# Altium footprint library STM32F103C8T6核心板.PcbLib: 14 footprints
Each footprint in its own frame and in the unit in brackets; x right, y up, seen from the top. Pads: shape width x height; smd on the part's side, far side on the other; paste and mask are expansions set on the pad; w line width, h text height; cw(c..) or ccw(c..) is an arc to the next point about the centre after c.
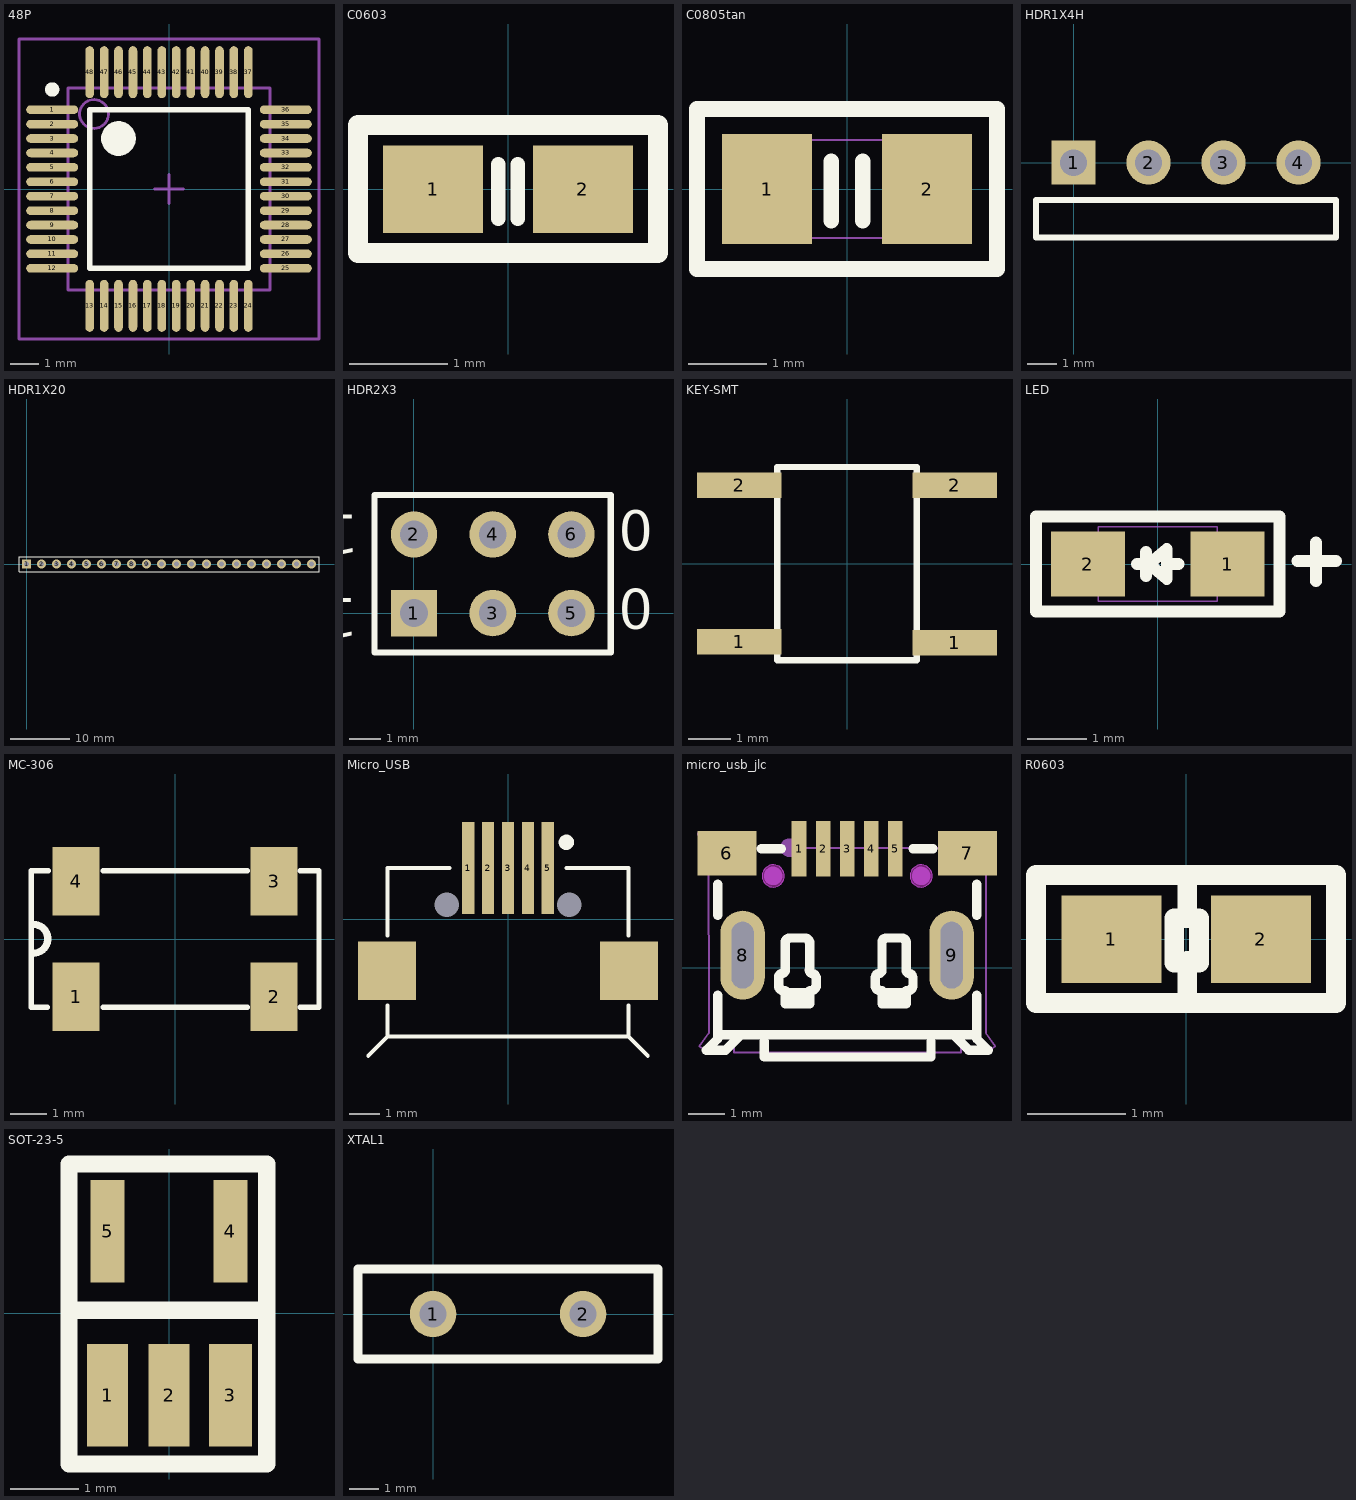
[diagram p0: the footprints below, top view; thin cyan lines are the x and y axes]

## 48P [mm]
height 4.32
pads (48):
  oval 1.8x0.3 smd: 1(-4.05,2.75) 2(-4.05,2.25) 3(-4.05,1.75) 4(-4.05,1.25) 5(-4.05,0.75) 6(-4.05,0.25) 7(-4.05,-0.25) 8(-4.05,-0.75) 9(-4.05,-1.25) 10(-4.05,-1.75) 11(-4.05,-2.25) 12(-4.05,-2.75) 25(4.05,-2.75) 26(4.05,-2.25) 27(4.05,-1.75) 28(4.05,-1.25) 29(4.05,-0.75) 30(4.05,-0.25) 31(4.05,0.25) 32(4.05,0.75) 33(4.05,1.25) 34(4.05,1.75) 35(4.05,2.25) 36(4.05,2.75)
  oval 0.3x1.8 smd: 13(-2.75,-4.05) 14(-2.25,-4.05) 15(-1.75,-4.05) 16(-1.25,-4.05) 17(-0.75,-4.05) 18(-0.25,-4.05) 19(0.25,-4.05) 20(0.75,-4.05) 21(1.25,-4.05) 22(1.75,-4.05) 23(2.25,-4.05) 24(2.75,-4.05) 37(2.75,4.05) 38(2.25,4.05) 39(1.75,4.05) 40(1.25,4.05) 41(0.75,4.05) 42(0.25,4.05) 43(-0.25,4.05) 44(-0.75,4.05) 45(-1.25,4.05) 46(-1.75,4.05) 47(-2.25,4.05) 48(-2.75,4.05)
Top Overlay:
  circle w0.6: c-1.75,1.75 r0.3
  circle w0.25: c-4.05,3.45 r0.125
  lines w0.2: -2.75,-2.75 2.75,-2.75 2.75,2.75 -2.75,2.75 -2.75,-2.75
Mechanical 13:
  circle w0.1: c-2.6,2.6 r0.5
  lines w0.1: -3.5,-3.5 3.5,-3.5 3.5,3.5 -3.5,3.5 -3.5,-3.5
Mechanical 15:
  lines w0.1: -0.5,0 0.5,0 ; 0,-0.5 0,0.5 ; -5.2,-5.2 5.2,-5.2 5.2,5.2 -5.2,5.2 -5.2,-5.2
3D body: height 1.6, standoff 0, extent -3.5,-3.5 3.5,3.5

## C0603 [mil]
height 170.08
pads (2):
  rect 40x35 smd: 1(-29.92,0) 2(29.92,0)
Top Overlay:
  lines w5.91: -3.94,-11.81 -3.94,9.84 ; 3.94,-11.81 3.94,9.84
  lines w7.87: -60,-25.59 -60,25.59 60,25.59 60,-25.59 -60,-25.59

## C0805tan [mil]
height 104.33
pads (2):
  rect 45x55 smd: 1(-40,0) 2(40,0)
Top Overlay:
  lines w7.87: -7.87,-15.75 -7.87,13.78 ; 7.87,-15.75 7.87,13.78 ; -75,-40 75,-40 75,40 -75,40 -75,-40
Mechanical 8:
  lines w1: -39.37,-24.61 39.37,-24.61 39.37,24.61 -39.37,24.61 -39.37,-24.61

## HDR1X4H [mm] "Connector; Header; 4 Position; Right Angle"
pads (4):
  rect 1.5x1.5 hole 0.9: 1(0,0)
  round 1.5 hole 0.9: 2(2.54,0) 3(5.08,0) 4(7.62,0)
Top Overlay:
  lines w0.2: -1.27,-2.54 8.89,-2.54 8.89,-1.27 -1.27,-1.27 -1.27,-2.54

## HDR1X20 [mm] "Connector; Header; 20 Position"
height 4.32
pads (20):
  rect 1.5x1.5 hole 0.9: 1(0,0)
  round 1.5 hole 0.9: 2(2.54,0) 3(5.08,0) 4(7.62,0) 5(10.16,0) 6(12.7,0) 7(15.24,0) 8(17.78,0) 9(20.32,0) 10(22.86,0) 11(25.4,0) 12(27.94,0) 13(30.48,0) 14(33.02,0) 15(35.56,0) 16(38.1,0) 17(40.64,0) 18(43.18,0) 19(45.72,0) 20(48.26,0)
Top Overlay:
  lines w0.2: -1.27,-1.27 49.53,-1.27 49.53,1.27 0.635,1.27 -1.27,1.27 -1.27,-1.27

## HDR2X3 [mm] "Connector; Header; 3x2 Position"
height 4.32
pads (6):
  rect 1.5x1.5 hole 0.9: 1(0,0)
  round 1.5 hole 0.9: 2(0,2.54) 3(2.54,0) 4(2.54,2.54) 5(5.08,0) 6(5.08,2.54)
Top Overlay:
  lines w0.2: 1.482,-1.27 6.35,-1.27 ; 6.35,-1.27 6.35,3.81 -1.27,3.81 -1.27,-1.27 6.35,-1.27
  text "0" at 6.604,2.032 h1.27
  text "0" at 6.604,-0.508 h1.27
  text "1" at -1.778,3.175 h1.27
  text "1" at -1.807,0.486 h1.27

## KEY-SMT [mm]
height 4.32
pads (4):
  rect 2x0.6 smd: 1(-2.55,-1.85) 1(2.55,-1.87) 2(-2.55,1.85) 2(2.55,1.85)
Top Overlay:
  lines w0.152: -1.651,-2.286 -1.651,2.286 1.651,2.286 1.651,-2.286 -1.651,-2.286

## LED [mil]
height 170.08
pads (2):
  rect 49x43 smd: 1(46.26,0) 2(-46.26,0)
Top Overlay:
  lines w7.87: -13.78,0 -5.91,0 ; -7.87,-7.87 -7.87,7.87 ; 5.91,0 13.78,0 ; 92.52,1.97 118.11,1.97 ; 104.75,-11.44 104.75,14.15 ; -5.91,0 5.91,-9.84 5.91,9.84 -5.91,0 ; -80.71,-31.5 -80.71,31.5 80.71,31.5 80.71,-31.5 -80.71,-31.5
Mechanical 8:
  lines w1: -39.37,-24.61 -39.37,24.61 39.37,24.61 39.37,-24.61 -39.37,-24.61

## MC-306 [mm]
height 1.6
pads (4):
  rect 1.3x1.9 smd: 1(-2.75,-1.6) 2(2.75,-1.6) 3(2.75,1.6) 4(-2.75,1.6)
Top Overlay:
  lines w0.152: -3.556,-1.9 -4,-1.9 -4,1.9 -3.531,1.9 ; -2,-1.9 2,-1.9 ; -2,1.9 2,1.9 ; 3.48,-1.9 4,-1.9 4,1.9 3.48,1.9
  lines w0.2: -3.937,-0.394 ccw(c-3.937,0.006) -3.937,0.406

## Micro_USB [mm]
height 4.32
pads (9):
  rect 0.4x3 smd: 1(-1.3,1.679) 2(-0.65,1.679) 3(0,1.679) 4(0.65,1.679) 5(1.3,1.679)
  round 0 hole 0.8 unplated: MH1(2,0.471) MH2(-2,0.471)
  rect 1.9x1.9 smd: ""(-3.95,-1.679) ""(3.95,-1.679)
Top Overlay:
  circle w0.25: c1.905,2.519 r0.125
  lines w0.127: -4.567,-4.459 -3.937,-3.829 -3.937,-2.813 ; -3.937,-0.527 -3.937,1.679 ; -3.9,-3.829 3.9,-3.829 ; -3.9,1.679 -1.905,1.679 ; 1.905,1.679 3.9,1.679 ; 3.937,-2.813 3.937,-3.829 4.567,-4.459 ; 3.937,-0.527 3.937,1.679

## micro_usb_jlc [mm]
pads (9):
  rect 0.4x1.5 smd paste-100 mask+0.051: 1(8.094,3.215) 2(8.744,3.215) 3(9.394,3.215) 4(10.045,3.215) 5(10.695,3.215)
  rect 1.6x1.2 smd paste-100 mask+0.051: 6(6.144,3.09) 7(12.644,3.09)
  oval 1.2x2.4 hole 0.6 slot 1.8 at 90 deg paste+0.051: 8(6.569,0.34) 9(12.219,0.34)
Top Overlay:
  lines w0.254: 5.894,-1.088 5.894,-1.815 ; 5.894,-0.743 5.894,-1.815 ; 5.894,1.423 5.894,2.259 5.894,1.768 ; 6.523,-1.815 6.105,-2.233 6.092,-2.233 5.584,-2.233 5.894,-1.923 5.894,-1.815 ; 7.075,3.215 7.616,3.215 ; 7.154,-1.995 7.154,-2.413 11.661,-2.413 11.661,-1.995 ; 7.54,-0.517 7.54,-0.263 ; 7.543,-0.257 cw(c7.643,-0.257) 7.643,-0.157 ; 7.545,-0.506 ccw(c7.645,-0.506) 7.645,-0.606 ; 7.633,-0.156 ccw(c7.62,-0.057) 7.72,-0.057 ; 7.641,-0.618 7.718,-0.618 7.718,-0.669 ; 7.718,-0.06 7.718,0.702 ; 7.72,0.694 cw(c7.82,0.694) 7.82,0.794 ; 7.819,0.804 8.276,0.804 ; 8.27,0.794 cw(c8.27,0.694) 8.37,0.694 ; 8.37,-0.057 ccw(c8.47,-0.057) 8.458,-0.157 ; 8.378,-0.06 8.378,0.702 ; 8.444,-0.157 cw(c8.444,-0.257) 8.544,-0.257 ; 8.446,-0.605 ccw(c8.446,-0.505) 8.546,-0.505 ; 8.454,-0.618 8.378,-0.618 8.378,-0.669 ; 8.556,-0.517 8.556,-0.263 ; 10.156,-0.517 10.156,-0.263 ; 10.159,-0.257 cw(c10.259,-0.257) 10.259,-0.157 ; 10.161,-0.506 ccw(c10.261,-0.506) 10.261,-0.606 ; 10.249,-0.156 ccw(c10.236,-0.057) 10.336,-0.057 ; 10.258,-0.618 10.334,-0.618 10.334,-0.669 ; 10.334,-0.06 10.334,0.702 ; 10.336,0.694 cw(c10.436,0.694) 10.436,0.794 ; 10.435,0.804 10.893,0.804 ; 10.886,0.794 cw(c10.886,0.694) 10.986,0.694 ; 10.986,-0.057 ccw(c11.086,-0.057) 11.074,-0.157 ; 10.994,-0.06 10.994,0.702 ; 11.06,-0.157 cw(c11.06,-0.257) 11.16,-0.257 ; 11.062,-0.605 ccw(c11.062,-0.505) 11.162,-0.505 ; 11.07,-0.618 10.994,-0.618 10.994,-0.669 ; 11.172,-0.517 11.172,-0.263 ; 11.172,3.215 11.713,3.215 ; 12.266,-1.815 12.684,-2.233 12.696,-2.233 13.204,-2.233 12.894,-1.923 12.894,-1.815 ; 12.894,-0.743 12.894,-1.088 12.894,-1.815 ; 12.894,1.423 12.894,1.905 ; 12.894,1.768 12.894,2.259 ; 5.894,-1.815 12.894,-1.815 ; 7.718,-0.745 8.378,-0.745 ; 7.718,-0.745 7.718,-0.974 8.378,-0.974 8.378,-0.745 ; 7.718,-0.745 7.718,-0.669 ; 7.718,-0.669 8.378,-0.669 ; 8.378,-0.745 8.378,-0.669 ; 10.334,-0.745 10.994,-0.745 ; 10.334,-0.745 10.334,-0.974 10.994,-0.974 10.994,-0.745 ; 10.334,-0.745 10.334,-0.669 ; 10.334,-0.669 10.994,-0.669 ; 10.994,-0.745 10.994,-0.669
Top Paste:
  region: 10.495,3.965 10.895,3.965 10.895,2.465 10.495,2.465
  region: 9.845,3.965 10.245,3.965 10.245,2.465 9.845,2.465
  region: 9.195,3.965 9.595,3.965 9.595,2.465 9.195,2.465
  region: 8.544,3.965 8.944,3.965 8.944,2.465 8.544,2.465
  region: 7.894,3.965 8.294,3.965 8.294,2.465 7.894,2.465
  region: 11.844,3.69 13.444,3.69 13.444,2.49 11.844,2.49
  region: 5.344,3.69 6.944,3.69 6.944,2.49 5.344,2.49
  region: 12.819,-0.26 12.819,-0.379 12.728,-0.6 12.559,-0.769 12.338,-0.86 12.1,-0.86 11.879,-0.769 11.71,-0.6 11.619,-0.379 11.619,-0.26 11.619,0.94 11.619,1.059 11.71,1.28 11.879,1.449 12.1,1.54 12.338,1.54 12.559,1.449 12.728,1.28 12.819,1.059 12.819,0.94
  region: 7.169,-0.26 7.169,-0.379 7.078,-0.6 6.909,-0.769 6.688,-0.86 6.45,-0.86 6.229,-0.769 6.06,-0.6 5.969,-0.379 5.969,-0.26 5.969,0.94 5.969,1.059 6.06,1.28 6.229,1.449 6.45,1.54 6.688,1.54 6.909,1.449 7.078,1.28 7.169,1.059 7.169,0.94
Keep-Out Layer:
  circle w0.003: c11.394,2.481 r0.3
  circle w0.003: c7.394,2.481 r0.3
Keep-Out Layer:
  region: 11.694,2.481 11.694,2.421 11.648,2.311 11.564,2.226 11.454,2.181 11.334,2.181 11.224,2.226 11.14,2.311 11.094,2.421 11.094,2.481 11.094,2.54 11.14,2.651 11.224,2.735 11.334,2.781 11.454,2.781 11.564,2.735 11.648,2.651 11.694,2.54 11.694,2.481
  region: 11.694,2.481 11.694,2.421 11.648,2.311 11.564,2.226 11.454,2.181 11.334,2.181 11.224,2.226 11.14,2.311 11.094,2.421 11.094,2.481 11.094,2.54 11.14,2.651 11.224,2.735 11.334,2.781 11.454,2.781 11.564,2.735 11.648,2.651 11.694,2.54 11.694,2.481
  region: 7.694,2.481 7.694,2.421 7.648,2.311 7.564,2.226 7.454,2.181 7.334,2.181 7.224,2.226 7.14,2.311 7.094,2.421 7.094,2.481 7.094,2.54 7.14,2.651 7.224,2.735 7.334,2.781 7.454,2.781 7.564,2.735 7.648,2.651 7.694,2.54 7.694,2.481
  region: 7.694,2.481 7.694,2.421 7.648,2.311 7.564,2.226 7.454,2.181 7.334,2.181 7.224,2.226 7.14,2.311 7.094,2.421 7.094,2.481 7.094,2.54 7.14,2.651 7.224,2.735 7.334,2.781 7.454,2.781 7.564,2.735 7.648,2.651 7.694,2.54 7.694,2.481
Mechanical 1:
  circle w0.003: c11.394,2.481 r0.3
  circle w0.003: c7.394,2.481 r0.3
Mechanical 2:
  circle w0.25: c7.394,2.481 r0.125
  circle w0.25: c11.394,2.481 r0.125
  circle w0.254: c7.834,3.245 r0.127
Mechanical 6:
  lines w0.051: 5.394,-2.125 5.644,-2.295 5.934,-1.875 5.944,-1.765 6.324,-1.765 6.334,-2.295 12.474,-2.295 12.474,-1.765 12.844,-1.765 12.864,-1.885 13.144,-2.295 13.394,-2.125 13.144,-1.765 13.144,3.535 11.944,3.535 11.944,3.235 6.854,3.235 6.854,3.535 5.644,3.545 5.654,-1.765 5.394,-2.125
Mechanical 8:
  region: 5.454,3.615 5.454,3.59 5.419,3.555 5.369,3.555 5.334,3.59 5.334,3.615 5.334,3.64 5.369,3.675 5.419,3.675 5.454,3.64 5.454,3.615
Mechanical 9:
  region: 6.769,0.79 6.769,-0.11 6.369,-0.11 6.369,0.79
  region: 12.419,0.79 12.419,-0.11 12.019,-0.11 12.019,0.79
  region: 5.644,3.49 6.644,3.49 6.644,2.69 5.644,2.69
  region: 12.144,3.49 13.144,3.49 13.144,2.69 12.144,2.69
  region: 7.969,3.615 8.219,3.615 8.219,2.815 7.969,2.815
  region: 8.619,3.615 8.869,3.615 8.869,2.815 8.619,2.815
  region: 9.269,3.615 9.519,3.615 9.519,2.815 9.269,2.815
  region: 9.92,3.615 10.17,3.615 10.17,2.815 9.92,2.815
  region: 10.57,3.615 10.82,3.615 10.82,2.815 10.57,2.815

## R0603 [mil]
height 170.08
pads (2):
  rect 40x35 smd: 1(-29.92,0) 2(29.92,0)
Top Overlay:
  lines w7.87: 0.39,-21.65 0.39,-8.66 ; 0.39,9.45 0.39,21.65 ; -60.07,-25.59 59.93,-25.59 59.93,25.59 -60.07,25.59 -60.07,-25.59 ; -4.72,-9.45 -4.72,8.27 5.12,8.27 5.12,-9.45 -4.72,-9.45

## SOT-23-5 [mm]
height 4.32
pads (5):
  rect 0.6x1.5 smd: 1(-0.9,-1.2) 2(0,-1.2)
  rect 0.63x1.5 smd: 3(0.9,-1.2)
  rect 0.5x1.5 smd: 4(0.9,1.2) 5(-0.9,1.2)
Top Overlay:
  lines w0.254: -1.466,0.041 1.43,0.041 ; -1.466,-2.21 -1.466,2.184 1.43,2.184 1.43,-2.21 -1.466,-2.21

## XTAL1 [mil]
height 170.08
pads (2):
  round 62 hole 35.43: 1(0,0) 2(200,0)
Top Overlay:
  lines w12: -100,-60 -100,60 300,60 300,-60 -100,-60